# Altium schematic symbol library First.SchLib: 2 symbols
Pins are listed as number, name and electrical type; pins without a type are passive.

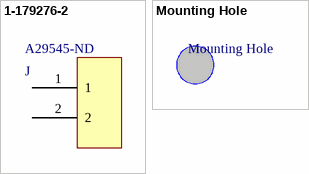
[diagram p0: symbols 1-179276-2 to Mounting Hole]

## 1-179276-2
designator J, comment Supplier Part Number 1: A29545-ND  (hidden comment: CONN HEADER R/A 2POS 5.08MM)
Connector Header Through Hole, Right Angle 2 position 0.200" (5.08mm); Manufacturer: TE Connectivity AMP Connectors; Manufecturer Part Number: 1-179276-2; Supplier 1: DigiKey
footprint 1-179276-2 (2_POS_HDR)
pins: 1, 2

## Mounting Hole
designator Mounting Hole, comment Mounting Hole Non Plated  (value not drawn)
footprint Mounting Hole (Mounting Hole 3.2mm)